# Altium footprint library SOT416.PcbLib: 2 footprints
Each footprint in its own frame and in the unit in brackets; x right, y up, seen from the top. Pads: shape width x height; smd on the part's side, far side on the other; paste and mask are expansions set on the pad; w line width, h text height; cw(c..) or ccw(c..) is an arc to the next point about the centre after c.
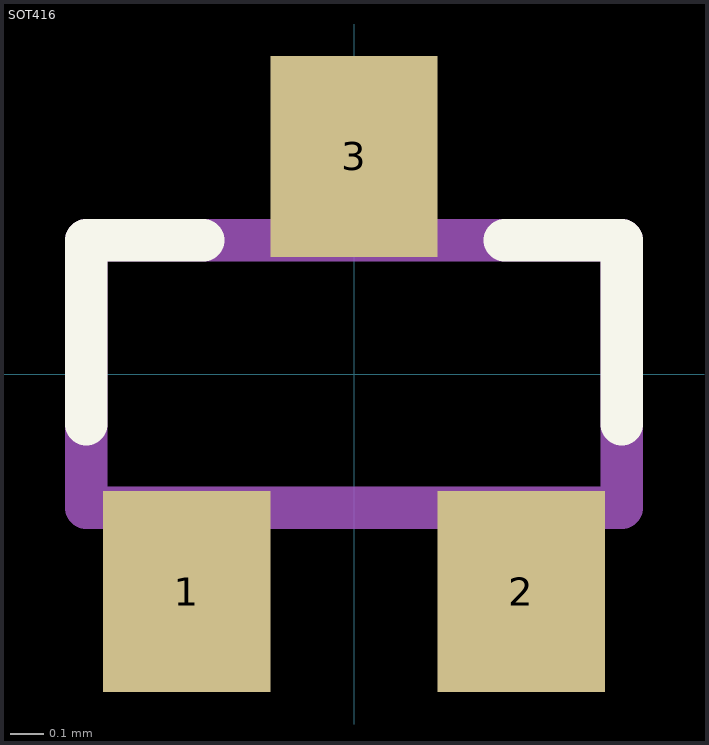
[diagram p0: the footprints below, top view; thin cyan lines are the x and y axes]

## PCBComponent_1 [mm]

## SOT416 [mm]
pads (3):
  rect 0.5x0.6 smd: 1(-0.5,-0.65) 2(0.5,-0.65) 3(0,0.65)
Top Overlay:
  lines w0.127: -0.8,-0.15 -0.8,0.4 -0.45,0.4 ; 0.45,0.4 0.8,0.4 0.8,-0.15
Mechanical 4:
  region: -0.115,0.7 0.1,0.7 0.1,0.459 -0.115,0.459
  region: 0.457,-0.4 0.6,-0.4 0.6,-0.8 0.457,-0.8
  region: -0.686,-0.4 -0.4,-0.4 -0.4,-0.801 -0.686,-0.801
  region: -0.115,0.7 0.1,0.7 0.1,0.459 -0.115,0.459
  region: 0.457,-0.4 0.6,-0.4 0.6,-0.8 0.457,-0.8
  region: -0.686,-0.4 -0.4,-0.4 -0.4,-0.801 -0.686,-0.801
  lines w0.127: -0.8,-0.4 -0.8,0.4 ; -0.8,-0.4 0.8,-0.4 ; -0.8,-0.4 -0.8,0.4 ; -0.8,-0.4 0.8,-0.4 ; -0.8,0.4 0.8,0.4 ; -0.8,0.4 0.8,0.4 ; 0.8,-0.4 0.8,0.4 ; 0.8,-0.4 0.8,0.4